# EAGLE library part TMM-108-01-L-S-RA (library NewSDR)
8-PIN RIGHT ANGLE 2MM PITCH HEADER - SAMTEC
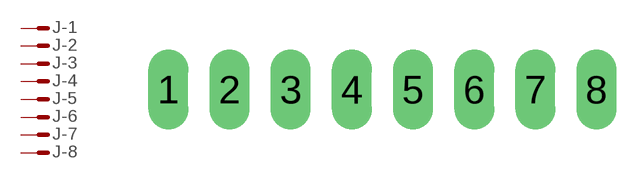
[diagram p162: symbol with the pads of TMM-108-01-L-S-RA; footprint TMM-108-01-L-S-RA]

Designator prefix J; gates -1=M -2=M -3=M -4=M -5=M -6=M -7=M -8=M

## TMM-108-01-L-S-RA  [TMM-108-01-L-S-RA]
1  -1:M  pas
2  -2:M  pas
3  -3:M  pas
4  -4:M  pas
5  -5:M  pas
6  -6:M  pas
7  -7:M  pas
8  -8:M  pas

## Footprint TMM-108-01-L-S-RA (pad centres in mm)
8-PIN RIGHT ANGLE 2MM PITCH HEADER - SAMTEC
drill 0.8 long: 1 -7,0; 2 -5,0; 3 -3,0; 4 -1,0; 5 1,0; 6 3,0; 7 5,0; 8 7,0